# EAGLE library part LP3982IMM-ADJ (library v-reg)
Regulator CMOS Micropower, Ultra Low-Dropout, Low-Noise, 300mA
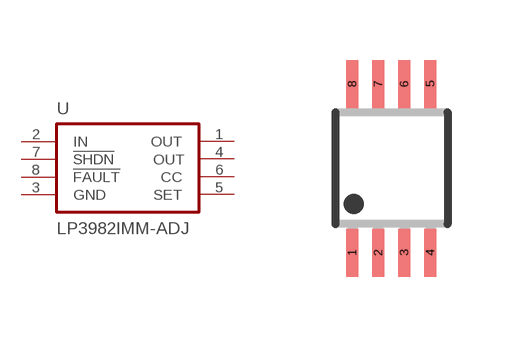
[diagram p14: symbol with the pads of MSOP08; footprint MSOP08]

Designator prefix U

## LP3982IMM-ADJ  [MSOP08]
1  OUT  pas
2  IN  pas
3  GND  pas
4  OUT1  pas
5  SET  pas
6  CC  pas
7  !SHDN!  pas
8  !FAULT!  pas

## Footprint MSOP08 (pad centres in mm)
Mini Small Outline Package
smd 0.3 x 1.2: 1 -0.976,-2.113; 2 -0.326,-2.113; 3 0.324,-2.113; 4 0.974,-2.113; 5 0.974,2.112; 6 0.324,2.112; 7 -0.326,2.112; 8 -0.976,2.112